# Altium footprint library ESP8266-12F.PcbLib: 1 footprints
Each footprint in its own frame and in the unit in brackets; x right, y up, seen from the top. Pads: shape width x height; smd on the part's side, far side on the other; paste and mask are expansions set on the pad; w line width, h text height; cw(c..) or ccw(c..) is an arc to the next point about the centre after c.
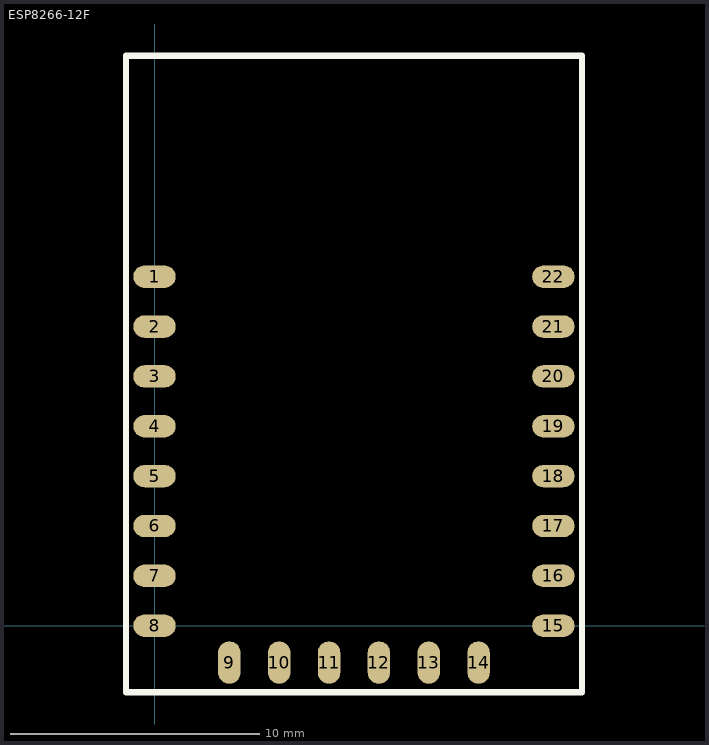
[diagram p0: the footprint, top view; thin cyan lines are the x and y axes]

## ESP8266-12F [mm]
pads (22):
  oval 1.7x0.9 smd: 1(0,14) 2(0,12) 3(0,10) 4(0,8) 5(0,6) 6(0,4) 7(0,2) 8(0,0) 15(16,0) 16(16,2) 17(16,4) 18(16,6) 19(16,8) 20(16,10) 21(16,12) 22(16,14)
  oval 0.9x1.7 smd: 9(3,-1.48) 10(5,-1.48) 11(7,-1.48) 12(9,-1.48) 13(11,-1.48) 14(13,-1.48)
Top Overlay:
  lines w0.254: -1.143,-2.667 -1.143,22.86 17.145,22.86 17.145,-2.667 -1.143,-2.667
3D body "EPS8266 ESP-12F.STEP": height 2.65, standoff -0.04, extent -0.004,-1.591 16.006,22.414
3D body: height 0.25, standoff 0, extent 3.175,13.716 3.175,13.716